# Altium footprint library Tag101 Rev16.PcbLib: 17 footprints (part 2 of 2)
Each footprint in its own frame and in the unit in brackets; x right, y up, seen from the top. Pads: shape width x height; smd on the part's side, far side on the other; paste and mask are expansions set on the pad; w line width, h text height; cw(c..) or ccw(c..) is an arc to the next point about the centre after c.
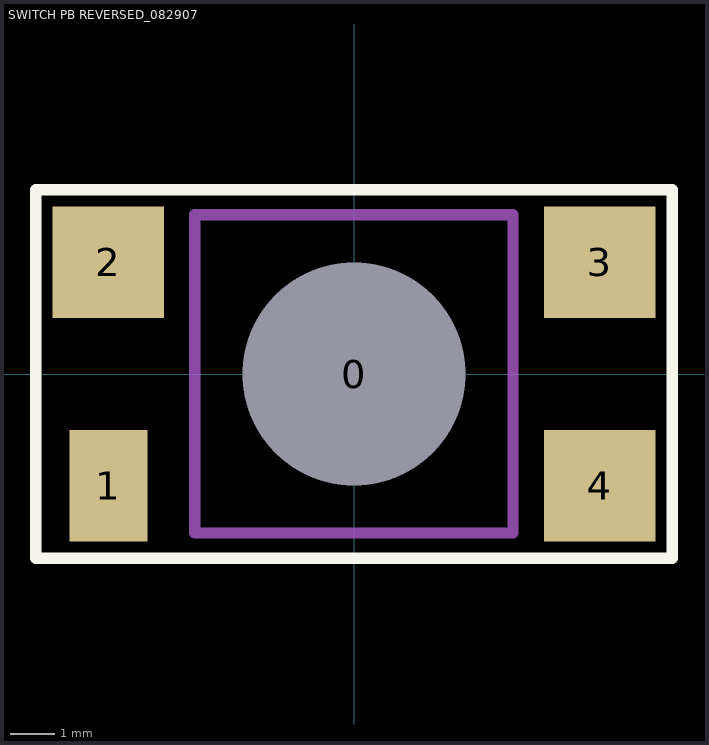
[diagram p1: the footprint, top view; thin cyan lines are the x and y axes]

## SWITCH PB REVERSED_082907 [mil] "SMT"
pads (5):
  round 195 hole 200 unplated: 0(0,0)
  rect 70x100 smd: 1(-220,-100)
  rect 100x100 smd: 2(-220,100) 3(220,100) 4(220,-100)
Top Overlay:
  lines w10: -285,-165 0,-165 285,-165 285,0 285,165 0,165 -285,165 -285,0 -285,-165
Mechanical 1:
  circle w10: c0,0 r75
  circle w10: c0,0 r59
  lines w10: -142.61,-142.39 142.39,-142.39 142.39,142.61 -142.61,142.61 -142.61,-142.39
Mechanical 8:
  text ".Designator" at -40,-150 h40
Mechanical 9:
  text ".Comment" at -175,-220 h40